# EAGLE library part EADOGM162W-A (library user)
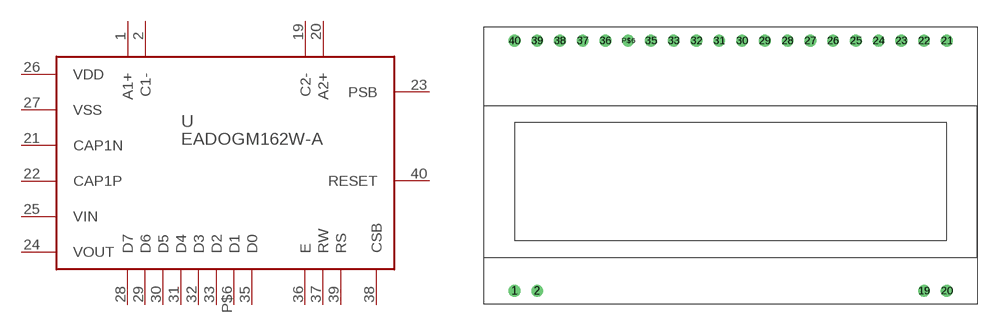
[diagram p0: symbol with the pads of LCD_FOOTPRINT; footprint LCD_FOOTPRINT]

Designator prefix -

## EADOGM162W-A  [LCD_FOOTPRINT]
1  A1+
2  C1-
19  C2-
20  A2+
21  CAP1N
22  CAP1P
23  PSB
24  VOUT
25  VIN
26  VDD
27  VSS
28  D7
29  D6
30  D5
31  D4
32  D3
33  D2
35  D0
36  E
37  RW
38  CSB
39  RS
40  RESET
P$6  D1

## Footprint LCD_FOOTPRINT (pad centres in mm)
drill 0.8: 1 -24.13,-12.19; 2 -21.59,-12.19; 19 21.59,-12.19; 20 24.13,-12.19; 21 24.13,15.75; 22 21.59,15.75; 23 19.05,15.75; 24 16.51,15.75; 25 13.97,15.75; 26 11.43,15.75; 27 8.89,15.75; 28 6.35,15.75; 29 3.81,15.75; 30 1.27,15.75; 31 -1.27,15.75; 32 -3.81,15.75; 33 -6.35,15.75; 35 -8.89,15.75; 36 -13.97,15.75; 37 -16.51,15.75; 38 -19.05,15.75; 39 -21.59,15.75; 40 -24.13,15.75; P$6 -11.43,15.75